# EAGLE library part 691403900004 (library Wurth_Terminal_Blocks_Connectors_rev15d)
WR-TBL Terminal block - serie 4039 2,54mm - Spring clamp/Screwless - Vertical wire entry - 04p Code:Con_TBL_Screwless_2.54_6914039000xxB_691403900004 <http://katalog.we-online.de/media/images/eican/Con_TBL_Screwless_2.54_6914039000xxB_pf2.jpg> Details see: http://katalog.we-online.de/en/em/691_403_900_0xxB/691_403_900_004B?m Created 2014-12-22, aslant tao 2014 (C) Würth Elektronik
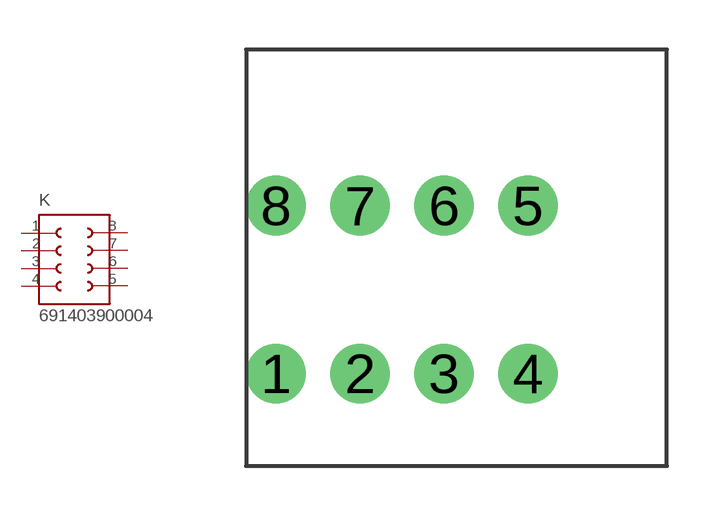
[diagram p209: symbol with the pads of 691403900004; footprint 691403900004]

Designator prefix K

## 691403900004  [691403900004]
1  1  pas
2  2  pas
3  3  pas
4  4  pas
5  5  pas
6  6  pas
7  7  pas
8  8  pas

## Footprint 691403900004 (pad centres in mm)
WR-TBL Serie 4039 - 2.54mm Screwless Vertical Entry - 0.5mm2 Wires, 4 Pins
drill 1.2: 1 -2.54,0; 2 0,0; 3 2.54,0; 4 5.08,0; 5 5.08,5.08; 6 2.54,5.08; 7 0,5.08; 8 -2.54,5.08